# Altium schematic symbol library UWRT_Schematic_Library_2020.SchLib: 766 symbols (part 5 of 8)
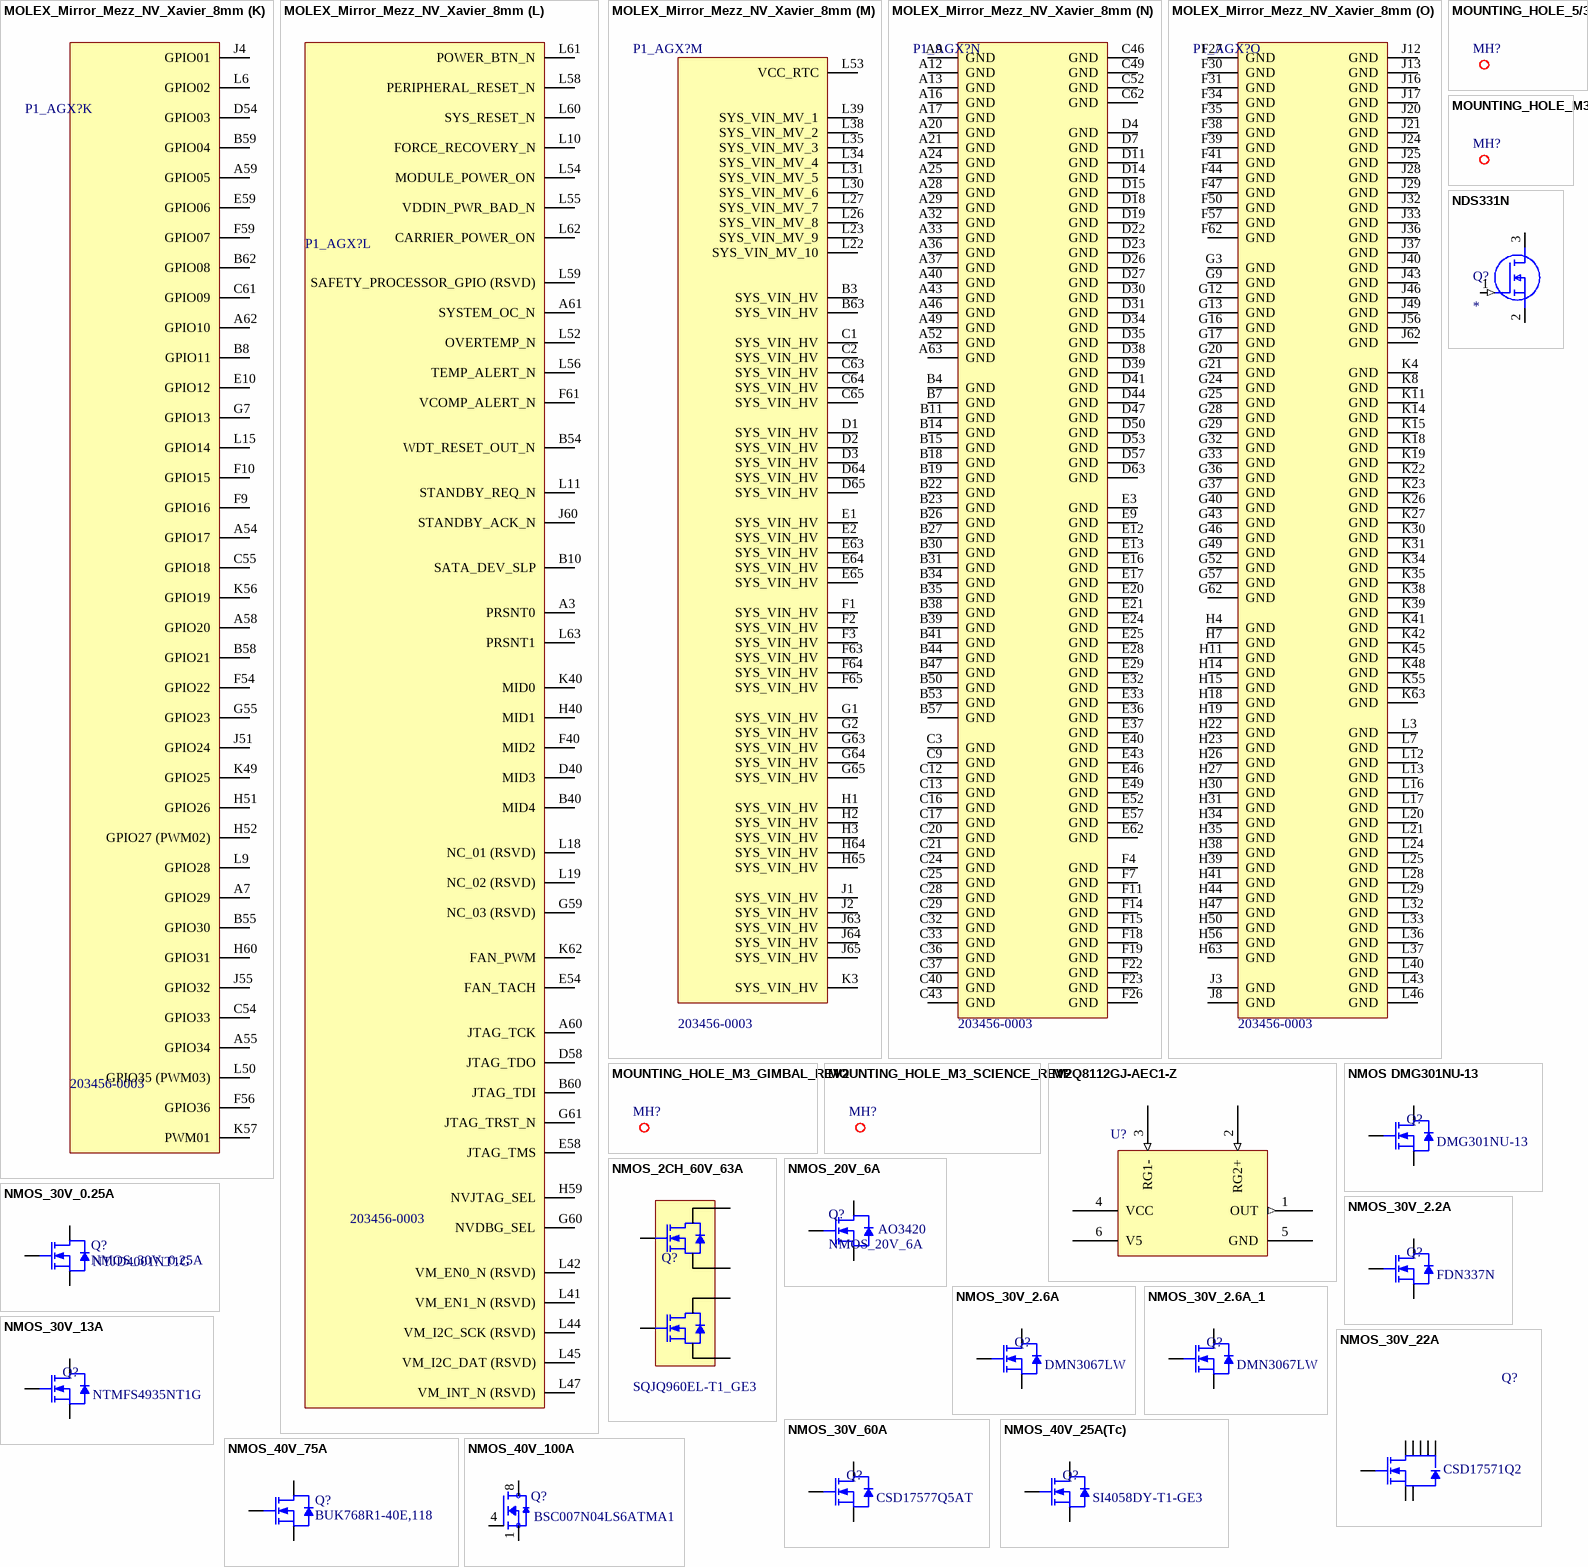
[diagram p29: symbols MOLEX_Mirror_Mezz_NV_Xavier_8mm to NMOS_40V_100A]

## MOLEX_Mirror_Mezz_NV_Xavier_8mm
designator P1_AGX?  Manufacturer Part Number 1: 203456-0003
CONN SELF-MATE 699POS SMD GOLD; Manufacturer 1: Molex; Supplier 1: Digi-Key; Supplier Part Number 1: WM25528CT-ND
footprint 203456-0003
part A pins: A14 UPHY_RX8_N "UPHY: Receive Lane 8", A15 UPHY_RX8_P "UPHY: Receive Lane 8", A18 UPHY_RX4_P "UPHY: Receive Lane 4", A19 UPHY_RX4_N "UPHY: Receive Lane 4", A22 UPHY_RX0_P "UPHY: Receive Lane 0", A23 UPHY_RX0_N "UPHY: Receive Lane 0", B12 UPHY_RX10_P "UPHY: Receive Lane 10", B13 UPHY_RX10_N "UPHY: Receive Lane 10", B16 UPHY_RX6_P "UPHY: Receive Lane 6", B17 UPHY_RX6_N "UPHY: Receive Lane 6", B20 UPHY_RX2_N "UPHY: Receive Lane 2", B21 UPHY_RX2_P "UPHY: Receive Lane 2", C14 UPHY_RX9_N "UPHY: Receive Lane 9", C15 UPHY_RX9_P "UPHY: Receive Lane 9", C18 UPHY_RX5_N "UPHY: Receive Lane 5", C19 UPHY_RX5_P "UPHY: Receive Lane 5", C22 UPHY_RX1_N "UPHY: Receive Lane 1", C23 UPHY_RX1_P "UPHY: Receive Lane 1", D12 UPHY_RX11_P "UPHY: Receive Lane 11", D13 UPHY_RX11_N "UPHY: Receive Lane 11", D16 UPHY_RX7_P "UPHY: Receive Lane 7", D17 UPHY_RX7_N "UPHY: Receive Lane 7", D20 UPHY_RX3_P "UPHY: Receive Lane 3", D21 UPHY_RX3_N "UPHY: Receive Lane 3", E26 UPHY_REFCLK1_N "UPHY: Reference Clock 1", E27 UPHY_REFCLK1_P "UPHY: Reference Clock 1", F28 UPHY_REFCLK2_P "UPHY: Reference Clock 2", F29 UPHY_REFCLK2_N "UPHY: Reference Clock 2", G14 UPHY_TX9_N "UPHY: Transmit Lane 9", G15 UPHY_TX9_P "UPHY: Transmit Lane 9", G18 UPHY_TX5_N "UPHY: Transmit Lane 5", G19 UPHY_TX5_P "UPHY: Transmit Lane 5", G22 UPHY_TX1_N "UPHY: Transmit Lane 1", G23 UPHY_TX1_P "UPHY: Transmit Lane 1", H12 UPHY_TX11_P "UPHY: Transmit Lane 11", H13 UPHY_TX11_N "UPHY: Transmit Lane 11", H16 UPHY_TX7_P "UPHY: Transmit Lane 7", H17 UPHY_TX7_N "UPHY: Transmit Lane 7", H20 UPHY_TX3_P "UPHY: Transmit Lane 3", H21 UPHY_TX3_N "UPHY: Transmit Lane 3", J14 UPHY_TX8_P "UPHY: Transmit Lane 8", J15 UPHY_TX8_N "UPHY: Transmit Lane 8", J18 UPHY_TX4_P "UPHY: Transmit Lane 4", J19 UPHY_TX4_N "UPHY: Transmit Lane 4", J22 UPHY_TX0_P "UPHY: Transmit Lane 0", J23 UPHY_TX0_N "UPHY: Transmit Lane 0", K12 UPHY_TX10_N "UPHY: Transmit Lane 10", K13 UPHY_TX10_P "UPHY: Transmit Lane 10", K16 UPHY_TX6_N "UPHY: Transmit Lane 6", K17 UPHY_TX6_P "UPHY: Transmit Lane 6", K20 UPHY_TX2_N "UPHY: Transmit Lane 2", K21 UPHY_TX2_P "UPHY: Transmit Lane 2"
part B pins: A26 NVHS0_SLVS_RX3_P "PCIe/SLVS0: Receive Lane 3", A27 NVHS0_SLVS_RX3_N "PCIe/SLVS0: Receive Lane 3", A30 NVHS0_SLVS_RX7_P "PCIe/SLVS0: Receive Lane 7", A31 NVHS0_SLVS_RX7_N "PCIe/SLVS0: Receive Lane 7", B24 NVHS0_SLVS_RX1_N "PCIe/SLVS0: Receive Lane 1", B25 NVHS0_SLVS_RX1_P "PCIe/SLVS0: Receive Lane 1", B28 NVHS0_SLVS_RX5_N "PCIe/SLVS0: Receive Lane 5", B29 NVHS0_SLVS_RX5_P "PCIe/SLVS0: Receive Lane 5", C26 NVHS0_SLVS_RX2_N "PCIe/SLVS0: Receive Lane 2", C27 NVHS0_SLVS_RX2_P "PCIe/SLVS0: Receive Lane 2", C30 NVHS0_SLVS_RX6_N "PCIe/SLVS0: Receive Lane 6", C31 NVHS0_SLVS_RX6_P "PCIe/SLVS0: Receive Lane 6", D24 NVHS0_SLVS_RX0_P "PCIe/SLVS0: Receive Lane 0", D25 NVHS0_SLVS_RX0_N "PCIe/SLVS0: Receive Lane 0", D28 NVHS0_SLVS_RX4_P "PCIe/SLVS0: Receive Lane 4", D29 NVHS0_SLVS_RX4_N "PCIe/SLVS0: Receive Lane 4", E30 NVHS0_SLVS_REFCLK0_P "PCIe/SLVS0: Reference Clock 0", E31 NVHS0_SLVS_REFCLK0_N "PCIe/SLVS0: Reference Clock 0", F32 NVHS0_SLVS_REFCLK1_P (RSVD) "PCIe/SLVS0: Reference Clock 1", F33 NVHS0_SLVS_REFCLK1_N (RSVD) "PCIe/SLVS0: Reference Clock 1", G26 NVHS0_TX2_N "PCIe/SLVS0: Transmit Lane 2", G27 NVHS0_TX2_P "PCIe/SLVS0: Transmit Lane 2", G30 NVHS0_TX6_N "PCIe/SLVS0: Transmit Lane 6", G31 NVHS0_TX6_P "PCIe/SLVS0: Transmit Lane 6", H24 NVHS0_TX0_P "PCIe/SLVS0: Transmit Lane 0", H25 NVHS0_TX0_N "PCIe/SLVS0: Transmit Lane 0", H28 NVHS0_TX4_P "PCIe/SLVS0: Transmit Lane 4", H29 NVHS0_TX4_N "PCIe/SLVS0: Transmit Lane 4", J26 NVHS0_TX3_P "PCIe/SLVS0: Transmit Lane 3", J27 NVHS0_TX3_N "PCIe/SLVS0: Transmit Lane 3", J30 NVHS0_TX7_P "PCIe/SLVS0: Transmit Lane 7", J31 NVHS0_TX7_N "PCIe/SLVS0: Transmit Lane 7", K24 NVHS0_TX1_N "PCIe/SLVS0: Transmit Lane 1", K25 NVHS0_TX1_P "PCIe/SLVS0: Transmit Lane 1", K28 NVHS0_TX5_N "PCIe/SLVS0: Transmit Lane 5", K29 NVHS0_TX5_P "PCIe/SLVS0: Transmit Lane 5"
part C pins: A34 NVHS1_SLVS_RX3_P (RSVD) "SLVS1: Receive Lane 3", A35 NVHS1_SLVS_RX3_N (RSVD) "SLVS1: Receive Lane 3", A38 NVHS1_SLVS_RX7_P (RSVD) "SLVS1: Receive Lane 7", A39 NVHS1_SLVS_RX7_N (RSVD) "SLVS1: Receive Lane 7", B32 NVHS1_SLVS_RX1_N (RSVD) "SLVS1: Receive Lane 1", B33 NVHS1_SLVS_RX1_P (RSVD) "SLVS1: Receive Lane 1", B36 NVHS1_SLVS_RX5_N (RSVD) "SLVS1: Receive Lane 5", B37 NVHS1_SLVS_RX5_P (RSVD) "SLVS1: Receive Lane 5", C34 NVHS1_SLVS_RX0_P (RSVD) "SLVS1: Receive Lane 0", C35 NVHS1_SLVS_RX0_N (RSVD) "SLVS1: Receive Lane 0", C38 NVHS1_SLVS_RX6_N (RSVD) "SLVS1: Receive Lane 6", C39 NVHS1_SLVS_RX6_P (RSVD) "SLVS1: Receive Lane 6", D32 NVHS1_SLVS_RX2_N (RSVD) "SLVS1: Receive Lane 2", D33 NVHS1_SLVS_RX2_P (RSVD) "SLVS1: Receive Lane 2", D36 NVHS1_SLVS_RX4_P (RSVD) "SLVS1: Receive Lane 4", D37 NVHS1_SLVS_RX4_N (RSVD) "SLVS1: Receive Lane 4", E34 NVHS1_SLVS_REFCLK1_P (RSVD) "PCIe/SLVS1: Reference Clock 1", E35 NVHS1_SLVS_REFCLK1_N (RSVD) "PCIe/SLVS1: Reference Clock 1", F36 NVHS1_SLVS_REFCLK0_P (RSVD) "PCIe/SLVS1: Reference Clock 0", F37 NVHS1_SLVS_REFCLK0_N (RSVD) "PCIe/SLVS1: Reference Clock 0", G34 NVHS1_TX1_N (RSVD) "SLVS1: Transmit Lane 1", G35 NVHS1_TX1_P (RSVD) "SLVS1: Transmit Lane 1", G38 NVHS1_TX6_N (RSVD) "SLVS1: Transmit Lane 6", G39 NVHS1_TX6_P (RSVD) "SLVS1: Transmit Lane 6", H32 NVHS1_TX3_P (RSVD) "SLVS1: Transmit Lane 3", H33 NVHS1_TX3_N (RSVD) "SLVS1: Transmit Lane 3", H36 NVHS1_TX7_P (RSVD) "SLVS1: Transmit Lane 7", H37 NVHS1_TX7_N (RSVD) "SLVS1: Transmit Lane 7", J34 NVHS1_TX2_N (RSVD) "SLVS1: Transmit Lane 2", J35 NVHS1_TX2_P (RSVD) "SLVS1: Transmit Lane 2", J38 NVHS1_TX5_N (RSVD) "SLVS1: Transmit Lane 5", J39 NVHS1_TX5_P (RSVD) "SLVS1: Transmit Lane 5", K32 NVHS1_TX0_P (RSVD) "SLVS1: Transmit Lane 0", K33 NVHS1_TX0_N (RSVD) "SLVS1: Transmit Lane 0", K36 NVHS1_TX4_P (RSVD) "SLVS1: Transmit Lane 4", K37 NVHS1_TX4_N (RSVD) "SLVS1: Transmit Lane 4"
part D pins: A8 PEX_WAKE_N "PCIe: PCIe Wake", B9 PEX_L1_RST_N "PCIe: PCIe 1 Reset", C8 PEX_L5_CLKREQ_N "PCIe: PCIe 5 Clock Request", D9 PEX_L1_CLKREQ_N "PCIe: PCIe 1 Clock Request", D10 PEX_L0_RST_N "PCIe: PCIe 0 Reset", E11 PEX_L0_CLKREQ_N "PCIe: PCIe 0 Clock Request", E14 PEX_CLK0_N "PCIe: PCIe 0 Reference Clock", E15 PEX_CLK0_P "PCIe: PCIe 0 Reference Clock", E18 PEX_CLK2_N (RSVD) "PCIe: PCIe 2 Reference Clock", E19 PEX_CLK2_P (RSVD) "PCIe: PCIe 2 Reference Clock", E22 PEX_CLK4_N "PCIe: PCIe 4 Reference Clock", E23 PEX_CLK4_P "PCIe: PCIe 4 Reference Clock", F16 PEX_CLK1_P "PCIe: PCIe 1 Reference Clock", F17 PEX_CLK1_N "PCIe: PCIe 1 Reference Clock", F20 PEX_CLK3_P "PCIe: PCIe 3 Reference Clock", F21 PEX_CLK3_N "PCIe: PCIe 3 Reference Clock", F24 PEX_CLK5_P "PCIe: PCIe 5 Reference Clock", F25 PEX_CLK5_N "PCIe: PCIe 5 Reference Clock", G8 PEX_L4_CLKREQ_N "PCIe: PCIe 4 Clock Request", H10 PEX_L5_RST_N "PCIe: PCIe 5 Reset", J9 PEX_L4_RST_N "PCIe: PCIe 4 Reset", J10 PEX_L3_CLKREQ_N "PCIe: PCIe 3 Clock Request", J11 PEX_L2_CLKREQ_N (RSVD) "PCIe: PCIe 2 Clock Request", K9 PEX_L3_RST_N "PCIe: PCIe 3 Reset", K10 PEX_L2_RST_N (RSVD) "PCIe: PCIe 2 Reset"
part E pins: A47 HDMI_DP1_TX0_P "Display: DisplayPort 1 Lane 0 or HDMI 1 Lane 2", A48 HDMI_DP1_TX0_N "Display: DisplayPort 1 Lane 0 or HDMI 1 Lane 2", A50 HDMI_DP2_TX2_N "Display: DisplayPort 2 Lane 2 or HDMI 2 Lane 0", A51 HDMI_DP2_TX2_P "Display: DisplayPort 2 Lane 2 or HDMI 2 Lane 0", B48 HDMI_DP1_TX1_N "Display: DisplayPort 1 Lane 1 or HDMI 1 Lane 1", B49 HDMI_DP1_TX1_P "Display: DisplayPort 1 Lane 1 or HDMI 1 Lane 1", B51 HDMI_DP2_TX1_P "Display: DisplayPort 2 Lane 1 or HDMI 2 Lane 1", B52 HDMI_DP2_TX1_N "Display: DisplayPort 2 Lane 1 or HDMI 2 Lane 1", C50 HDMI_DP2_TX3_N "Display: DisplayPort 2 Lane 3 or HDMI 2 Clock Lane", C51 HDMI_DP2_TX3_P "Display: DisplayPort 2 Lane 3 or HDMI 2 Clock Lane", D48 HDMI_DP1_TX2_N "Display: DisplayPort 1 Lane 2 or HDMI 1 Lane 0", D49 HDMI_DP1_TX2_P "Display: DisplayPort 1 Lane 2 or HDMI 1 Lane 0", D51 HDMI_DP2_TX0_P "Display: DisplayPort 2 Lane 0 or HDMI 2 Lane 2", D52 HDMI_DP2_TX0_N "Display: DisplayPort 2 Lane 0 or HDMI 2 Lane 2", E50 HDMI_DP1_TX3_P "Display: DisplayPort 1 Lane 3 or HDMI 1 Clock Lane", E51 HDMI_DP1_TX3_N "Display: DisplayPort 1 Lane 3 or HDMI 1 Clock Lane", F51 DP0_AUX_CH_N "Display: DisplayPort 0 Lane AUX or HDMI 0 DDC SDA", F52 DP0_AUX_CH_P "Display: DisplayPort 0 Lane AUX or HDMI 0 DDC SCL", G50 HDMI_DP0_TX1_N "Display: DisplayPort 0 Lane 1 or HDMI 0 Lane 1", G51 HDMI_DP0_TX1_P "Display: DisplayPort 0 Lane 1 or HDMI 0 Lane 1", G53 DP2_AUX_CH_P "Display: DisplayPort 2 Lane AUX or HDMI 2 DDC SCL", G54 DP2_AUX_CH_N "Display: DisplayPort 2 Lane AUX or HDMI 2 DDC SDA", H48 HDMI_DP0_TX0_N "Display: DisplayPort 0 Lane 0 or HDMI 0 Lane 2", H49 HDMI_DP0_TX0_P "Display: DisplayPort 0 Lane 0 or HDMI 0 Lane 2", J47 HDMI_DP0_TX2_P "Display: DisplayPort 0 Lane 2 or HDMI 0 Lane 0", J48 HDMI_DP0_TX2_N "Display: DisplayPort 0 Lane 2 or HDMI 0 Lane 0", J50 HDMI_CEC "Display: HDMI CEC", J52 DP1_AUX_CH_P "Display: DisplayPort 1 Lane AUX or HDMI 1 DDC SCL", J53 DP1_AUX_CH_N "Display: DisplayPort 1 Lane AUX or HDMI 1 DDC SDA", K46 HDMI_DP0_TX3_P "Display: DisplayPort 0 Lane 3 or HDMI 0 Clock Lane", K47 HDMI_DP0_TX3_N "Display: DisplayPort 0 Lane 3 or HDMI 0 Clock Lane", K50 DP2_HPD "Display: DisplayPort 2 or HDMI 2 Hot Plug Detect", K51 DP1_HPD "Display: DisplayPort 1 or HDMI 1 Hot Plug Detect", K52 DP0_HPD "Display: DisplayPort 0 or HDMI 0 Hot Plug Detect"
part F pins: A10 USB2_P "USB: Port 2 Data", A11 USB2_N "USB: Port 2 Data", B5 RGMII_TXC "RGMII: Transmit Clock", C4 RGMII_RD0 "RGMII: Receive Data Bit 0", C5 RGMII_RXC "RGMII: Receive Clock", C10 USB1_N "USB: Port 1 Data", C11 USB1_P "USB: Port 1 Data", D5 RGMII_RX_CTL "RGMII: Receive Control", E5 RGMII_RD3 "RGMII: Receive Data Bit 3", E6 RGMII_SMA_MDC "RGMII: Management Clock", E7 RGMII_SMA_MDIO "RGMII: Management Data", F12 USB0_P "USB: Port 0 Data", F13 USB0_N "USB: Port 0 Data", G5 RGMII_TD1 "RGMII: Transmit Data Bit 1", G6 RGMII_TD3 "RGMII: Transmit Data Bit 3", G10 USB3_N "USB: Port 3 Data", G11 USB3_P "USB: Port 3 Data", H5 ENET_RST_N "RGMII: Reset", H6 RGMII_RD2 "RGMII: Receieve Data Bit 2", J5 ENET_INT "RGMII: Interrupt", J6 RGMII_TD0 "RGMII: Transmit Data Bit 0", J7 RGMII_TD2 "RGMII: Transmit Data Bit 2", K6 RGMII_RD1 "RGMII: Receive Data Bit 1", K7 RGMII_TX_CTL "RGMII: Transmit Control"
part G pins: A41 CSI2_D0_P "CSI: CSI 2 Data 0", A42 CSI2_D0_N "CSI: CSI 2 Data 0", A44 CSI7_D0_P "CSI: CSI 7 Data 0", A45 CSI7_D0_N "CSI: CSI 7 Data 0", B42 CSI2_CLK_N "CSI: CSI 2 Clock", B43 CSI2_CLK_P "CSI: CSI 2 Clock", B45 CSI7_CLK_P "CSI: CSI 7 Clock", B46 CSI7_CLK_N "CSI: CSI 7 Clock", C41 CSI2_D1_N "CSI: CSI 2 Data 1", C42 CSI2_D1_P "CSI: CSI 2 Data 1", C44 CSI5_CLK_P "CSI: CSI 5 Clock", C45 CSI5_CLK_N "CSI: CSI 5 Clock", C47 CSI7_D1_P "CSI: CSI 7 Data 1", C48 CSI7_D1_N "CSI: CSI 7 Data 1", D42 CSI5_D0_P "CSI: CSI 5 Data 0", D43 CSI5_D0_N "CSI: CSI 5 Data 0", D45 CSI5_D1_N "CSI: CSI 5 Data 1", D46 CSI5_D1_P "CSI: CSI 5 Data 1", E38 CSI0_D1_N "CSI: CSI 0 Data 1", E39 CSI0_D1_P "CSI: CSI 0 Data 1", E41 CSI0_D0_N "CSI: CSI 0 Data 0", E42 CSI0_D0_P "CSI: CSI 0 Data 0", E44 CSI3_D0_N "CSI: CSI 3 Data 0", E45 CSI3_D0_P "CSI: CSI 3 Data 0", E47 CSI4_D1_P "CSI: CSI 4 Data 1", E48 CSI4_D1_N "CSI: CSI 4 Data 1", F42 CSI0_CLK_N "CSI: CSI 0 Clock", F43 CSI0_CLK_P "CSI: CSI 0 Clock", F45 CSI3_CLK_N "CSI: CSI 3 Clock", F46 CSI3_CLK_P "CSI: CSI 3 Clock", F48 CSI4_CLK_P "CSI: CSI 4 Clock", F49 CSI4_CLK_N "CSI: CSI 4 Clock", G41 CSI1_D0_P "CSI: CSI 1 Data 0", G42 CSI1_D0_N "CSI: CSI 1 Data 0", G44 CSI3_D1_P "CSI: CSI 3 Data 1", G45 CSI3_D1_N "CSI: CSI 3 Data 1", G47 CSI4_D0_N "CSI: CSI 4 Data 0", G48 CSI4_D0_P "CSI: CSI 4 Data 0", H42 CSI1_CLK_N "CSI: CSI 1 Clock", H43 CSI1_CLK_P "CSI: CSI 1 Clock", H45 CSI6_D1_N "CSI: CSI 6 Data 1", H46 CSI6_D1_P "CSI: CSI 6 Data 1", J41 CSI1_D1_P "CSI: CSI 1 Data 1", J42 CSI1_D1_N "CSI: CSI 1 Data 1", J44 CSI6_CLK_P "CSI: CSI 6 Clock", J45 CSI6_CLK_N "CSI: CSI 6 Clock", K43 CSI6_D0_N "CSI: CSI 6 Data 0", K44 CSI6_D0_P "CSI: CSI 6 Data 0"
part H pins: A53 I2C5_CLK (DO NOT USE) (out) "I2C: Clock 5", C7 I2S1_DOUT (out) "I2S: Audio Port 1 Data Out", C53 I2C5_DAT (DO NOT USE) (io) "I2C: Data 5", C59 I2S3_CLK (io) "I2S: Audio Port 3 Clock", C60 I2S3_FS (in) "I2S: Audio Port 3 Left/Right Clock", D8 I2S1_FS (in) "I2S: Audio Port 1 Left/Right Clock", D61 I2C4_CLK (out) "I2C: Clock 4", E4 I2S2_FS (in) "I2S: Audio Port 2 Left/Right Clock", E53 I2C3_DAT (io) "I2C: Data 3", E60 I2C4_DAT (io) "I2C: Data 4", F5 I2S2_DOUT (out) "I2S: Audio Port 2 Data Out", F6 I2S2_DIN (in) "I2S: Audio Port 2 Data In", F53 I2C3_CLK (out) "I2C: Clock 3", G4 I2S2_CLK (io) "I2S: Audio Port 2 Clock", H8 I2S1_DIN (in) "I2S: Audio Port 1 Data In", H9 MCLK01 (out) "I2S: Audio Codec Master Clock 1", H53 MCLK03 (out) "I2S: Audio Codec Master Clock 3", H55 MCLK04 (out) "I2S: Audio Codec Master Clock 4", J54 MCLK02 (out) "I2S: Audio Codec Master Clock 2", J59 I2S3_DIN (in) "I2S: Audio Port 3 Data In", J61 I2C2_CLK (out) "I2C: Clock 2", K5 I2C1_CLK (out) "I2C: Clock 1", K59 I2S3_DOUT (out) "I2S: Audio Port 3 Data Out", K61 I2C2_DAT (io) "I2C: Data 2", L8 I2C1_DAT (io) "I2C: Data 1", L14 I2S1_CLK (io) "I2S: Audio Port 1 Clock", L57 MCLK05 (out) "I2S: Audio Codec Master Clock 5"
part I pins: A4 SDCARD_D2 "SD Card: SDIO Data 2", A5 SDCARD_CMD "SD Card: SDIO Command", A6 UFS0_REF_CLK "UFS: Reference Clock", A56 SPI1_MISO "SPI: SPI 1 Master In / Slave Out", B6 SDCARD_CLK "SD Card: Transmit Clock", B56 SPI1_CS1_N "SPI: SPI 1 Chip Select 1", C6 UFS0_RST_N "UFS: Reset", C57 SPI3_CS0_N "SPI: SPI 3 Chip Select 0", D6 SDCARD_D3 "SD Card: SDIO Data 3", D55 SPI1_MOSI "SPI: SPI 1 Master Out / Slave In", D56 SPI3_MISO "SPI: SPI 3 Master In / Slave Out", D60 SPI2_CS0_N "SPI: SPI 2 Chip Select 0", D62 SPI2_MISO "SPI: SPI 2 Master In / Slave Out", E8 SDCARD_D0 "SD Card: SDIO Data 0", E55 SPI1_CS0_N "SPI: SPI 1 Chip Select 0", E56 SPI3_CS1_N "SPI: SPI 3 Chip Select 1", E61 SPI2_CLK "SPI: SPI 2 Clock", F8 SDCARD_D1 "SD Card: SDIO Data 1", F55 SPI3_CLK "SPI: SPI 3 Clock", F60 SPI2_MOSI "SPI: SPI 2 Master Out / Slave In", G56 SPI3_MOSI "SPI: SPI 3 Master Out / Slave In", J57 SPI1_CLK "SPI: SPI 1 Clock"
part J pins: A57 UART2_CTS "UART: UART 2 Clear to Send", B61 CAN1_DIN "CAN: CAN 1 Receive", C56 UART2_RX "UART: UART 2 Receive", C58 UART2_TX "UART: UART 2 Transmit", D59 CAN0_DOUT "CAN: CAN 0 Transmit", F58 CAN0_DIN "CAN: CAN 0 Receive", G58 UART2_RTS "UART: UART 2 Request to Send", H54 UART1_CTS "UART: UART 1 Clear to Send", H57 UART5_CTS "UART: UART 5 Clear to Send", H58 UART5_RX "UART: UART 5 Receive", H61 CAN1_DOUT "CAN: CAN 1 Transmit", H62 UART3_TX_DEBUG "UART: Debug UART Transmit", J58 UART5_TX "UART: UART 5 Transmit", K53 UART1_TX "UART: UART 1 Transmit", K54 UART1_RX "UART: UART 1 Receive", K58 UART5_RTS "UART: UART 5 Request to Send", K60 UART3_RX_DEBUG "UART: Debug UART Receive", L4 UART4_RTS (RSVD) "UART: UART 4 Request to Send", L5 UART4_TX (RSVD) "UART: UART 4 Transmit", L48 UART4_RX (RSVD) "UART: UART 4 Receive", L49 UART4_CTS (RSVD) "UART: UART 4 Clear to Send", L51 UART1_RTS "UART: UART 1 Request to Send"
part K pins: A7 GPIO29 "GPIO: GPIO29", A54 GPIO17 "GPIO: GPIO17", A55 GPIO34 "GPIO: GPIO34", A58 GPIO20 "GPIO: GPIO20", A59 GPIO05 "GPIO: GPIO05", A62 GPIO10 "GPIO: GPIO10", B8 GPIO11 "GPIO: GPIO11", B55 GPIO30 "GPIO: GPIO30", B58 GPIO21 "GPIO: GPIO21", B59 GPIO04 "GPIO: GPIO04", B62 GPIO08 "GPIO: GPIO08", C54 GPIO33 "GPIO: GPIO33", C55 GPIO18 "GPIO: GPIO18", C61 GPIO09 "GPIO: GPIO09", D54 GPIO03 "GPIO: GPIO03", E10 GPIO12 "GPIO: GPIO12", E59 GPIO06 "GPIO: GPIO06", F9 GPIO16 "GPIO: GPIO16", F10 GPIO15 "GPIO: GPIO15", F54 GPIO22 "GPIO: GPIO22", F56 GPIO36 "GPIO: GPIO36", F59 GPIO07 "GPIO: GPIO07", G7 GPIO13 "GPIO: GPIO13", G55 GPIO23 "GPIO: GPIO23", H51 GPIO26 "GPIO: GPIO26", H52 GPIO27 (PWM02) "GPIO: GPIO27", H60 GPIO31 "GPIO: GPIO31", J4 GPIO01 "GPIO: GPIO01", J51 GPIO24 "GPIO: GPIO24", J55 GPIO32 "GPIO: GPIO32", K49 GPIO25 "GPIO: GPIO25", K56 GPIO19 "GPIO: GPIO19", K57 PWM01 "GPIO: PWM01", L6 GPIO02 "GPIO: GPIO02", L9 GPIO28 "GPIO: GPIO28", L15 GPIO14 "GPIO: GPIO14", L50 GPIO35 (PWM03) "GPIO: GPIO35"
part L pins: A3 PRSNT0 "SYS: Module Present #0. Connected to PRSNT1 on the NVIDIA Xavier Module", A60 JTAG_TCK "JTAG: Test Clock", A61 SYSTEM_OC_N "SYS: Battery Over-Current & Thermal Warning", B10 SATA_DEV_SLP "SATA: Device Sleep", B40 MID4 "SYS: Module ID #4", B54 WDT_RESET_OUT_N "SYS: Watchdog Timeout", B60 JTAG_TDI "JTAG: Test Data In", D40 MID3 "SYS: Module ID #3", D58 JTAG_TDO "JTAG: Test Data Out", E54 FAN_TACH "FAN: Fan Tachometer Signal", E58 JTAG_TMS "JTAG: Test Mode Select", F40 MID2 "SYS: Module ID #2", F61 VCOMP_ALERT_N "SYS: TBD", G59 NC_03 (RSVD) "SYS: No Connect", G60 NVDBG_SEL "SYS: NVIDIA Debug Select", G61 JTAG_TRST_N "JTAG: Test Reset", H40 MID1 "SYS: Module ID #1", H59 NVJTAG_SEL "SYS: NVIDIA JTAG Select", J60 STANDBY_ACK_N "SYS: Standby Acknowledge", K40 MID0 "SYS: Module ID #0", K62 FAN_PWM "FAN: Fan Pulse Width Modulation Signal", L10 FORCE_RECOVERY_N "SYS: Force Recovery", L11 STANDBY_REQ_N "SYS: Standby Request", L18 NC_01 (RSVD) "SYS: No Connect", L19 NC_02 (RSVD) "SYS: No Connect", L41 VM_EN1_N (RSVD) "RSVD", L42 VM_EN0_N (RSVD) "RSVD", L44 VM_I2C_SCK (RSVD) "VM_I2C: Clock", L45 VM_I2C_DAT (RSVD) "VM_I2C: Data", L47 VM_INT_N (RSVD) "RSVD", L52 OVERTEMP_N "SYS: Force Power Off Request", L54 MODULE_POWER_ON "SYS: Module Power On", L55 VDDIN_PWR_BAD_N "SYS: VDD_IN Power Bad", L56 TEMP_ALERT_N "SYS: Alert from Temp Sensor on Module", L58 PERIPHERAL_RESET_N "SYS: Peripheral Reset", L59 SAFETY_PROCESSOR_GPIO (RSVD) "RSVD", L60 SYS_RESET_N "SYS: System Reset", L61 POWER_BTN_N "SYS: Power Button", L62 CARRIER_POWER_ON "SYS: Carrier Power On", L63 PRSNT1 "SYS: Module Present #1. Connected to PRSNT0 on the NVIDIA Xavier Module"
part M pins: B3 SYS_VIN_HV "Power: System Voltage Input - High (+9V to +20V)", B63 SYS_VIN_HV "Power: System Voltage Input - High (+9V to +20V)", C1 SYS_VIN_HV "Power: System Voltage Input - High (+9V to +20V)", C2 SYS_VIN_HV "Power: System Voltage Input - High (+9V to +20V)", C63 SYS_VIN_HV "Power: System Voltage Input - High (+9V to +20V)", C64 SYS_VIN_HV "Power: System Voltage Input - High (+9V to +20V)", C65 SYS_VIN_HV "Power: System Voltage Input - High (+9V to +20V)", D1 SYS_VIN_HV "Power: System Voltage Input - High (+9V to +20V)", D2 SYS_VIN_HV "Power: System Voltage Input - High (+9V to +20V)", D3 SYS_VIN_HV "Power: System Voltage Input - High (+9V to +20V)", D64 SYS_VIN_HV "Power: System Voltage Input - High (+9V to +20V)", D65 SYS_VIN_HV "Power: System Voltage Input - High (+9V to +20V)", E1 SYS_VIN_HV "Power: System Voltage Input - High (+9V to +20V)", E2 SYS_VIN_HV "Power: System Voltage Input - High (+9V to +20V)", E63 SYS_VIN_HV "Power: System Voltage Input - High (+9V to +20V)", E64 SYS_VIN_HV "Power: System Voltage Input - High (+9V to +20V)", E65 SYS_VIN_HV "Power: System Voltage Input - High (+9V to +20V)", F1 SYS_VIN_HV "Power: System Voltage Input - High (+9V to +20V)", F2 SYS_VIN_HV "Power: System Voltage Input - High (+9V to +20V)", F3 SYS_VIN_HV "Power: System Voltage Input - High (+9V to +20V)", F63 SYS_VIN_HV "Power: System Voltage Input - High (+9V to +20V)", F64 SYS_VIN_HV "Power: System Voltage Input - High (+9V to +20V)", F65 SYS_VIN_HV "Power: System Voltage Input - High (+9V to +20V)", G1 SYS_VIN_HV "Power: System Voltage Input - High (+9V to +20V)", G2 SYS_VIN_HV "Power: System Voltage Input - High (+9V to +20V)", G63 SYS_VIN_HV "Power: System Voltage Input - High (+9V to +20V)", G64 SYS_VIN_HV "Power: System Voltage Input - High (+9V to +20V)", G65 SYS_VIN_HV "Power: System Voltage Input - High (+9V to +20V)", H1 SYS_VIN_HV "Power: System Voltage Input - High (+9V to +20V)", H2 SYS_VIN_HV "Power: System Voltage Input - High (+9V to +20V)", H3 SYS_VIN_HV "Power: System Voltage Input - High (+9V to +20V)", H64 SYS_VIN_HV "Power: System Voltage Input - High (+9V to +20V)", H65 SYS_VIN_HV "Power: System Voltage Input - High (+9V to +20V)", J1 SYS_VIN_HV "Power: System Voltage Input - High (+9V to +20V)", J2 SYS_VIN_HV "Power: System Voltage Input - High (+9V to +20V)", J63 SYS_VIN_HV "Power: System Voltage Input - High (+9V to +20V)", J64 SYS_VIN_HV "Power: System Voltage Input - High (+9V to +20V)", J65 SYS_VIN_HV "Power: System Voltage Input - High (+9V to +20V)", K3 SYS_VIN_HV "Power: System Voltage Input - High (+9V to +20V)", L22 SYS_VIN_MV_10 "Power: System Voltage Input - Medium (+5V)", L23 SYS_VIN_MV_9 "Power: System Voltage Input - Medium (+5V)", L26 SYS_VIN_MV_8 "Power: System Voltage Input - Medium (+5V)", L27 SYS_VIN_MV_7 "Power: System Voltage Input - Medium (+5V)", L30 SYS_VIN_MV_6 "Power: System Voltage Input - Medium (+5V)", L31 SYS_VIN_MV_5 "Power: System Voltage Input - Medium (+5V)", L34 SYS_VIN_MV_4 "Power: System Voltage Input - Medium (+5V)", L35 SYS_VIN_MV_3 "Power: System Voltage Input - Medium (+5V)", L38 SYS_VIN_MV_2 "Power: System Voltage Input - Medium (+5V)", L39 SYS_VIN_MV_1 "Power: System Voltage Input - Medium (+5V)", L53 VCC_RTC "Power: Real-Time-Clock (+1.65V to +5.5V)"
part N pins: A9 GND "Power: GND", A12 GND "Power: GND", A13 GND "Power: GND", A16 GND "Power: GND", A17 GND "Power: GND", A20 GND "Power: GND", A21 GND "Power: GND", A24 GND "Power: GND", A25 GND "Power: GND", A28 GND "Power: GND", A29 GND "Power: GND", A32 GND "Power: GND", A33 GND "Power: GND", A36 GND "Power: GND", A37 GND "Power: GND", A40 GND "Power: GND", A43 GND "Power: GND", A46 GND "Power: GND", A49 GND "Power: GND", A52 GND "Power: GND", A63 GND "Power: GND", B4 GND "Power: GND", B7 GND "Power: GND", B11 GND "Power: GND", B14 GND "Power: GND", B15 GND "Power: GND", B18 GND "Power: GND", B19 GND "Power: GND", B22 GND "Power: GND", B23 GND "Power: GND", B26 GND "Power: GND", B27 GND "Power: GND", B30 GND "Power: GND", B31 GND "Power: GND", B34 GND "Power: GND", B35 GND "Power: GND", B38 GND "Power: GND", B39 GND "Power: GND", B41 GND "Power: GND", B44 GND "Power: GND", B47 GND "Power: GND", B50 GND "Power: GND", B53 GND "Power: GND", B57 GND "Power: GND", C3 GND "Power: GND", C9 GND "Power: GND", C12 GND "Power: GND", C13 GND "Power: GND", C16 GND "Power: GND", C17 GND "Power: GND", C20 GND "Power: GND", C21 GND "Power: GND", C24 GND "Power: GND", C25 GND "Power: GND", C28 GND "Power: GND", C29 GND "Power: GND", C32 GND "Power: GND", C33 GND "Power: GND", C36 GND "Power: GND", C37 GND "Power: GND", C40 GND "Power: GND", C43 GND "Power: GND", C46 GND "Power: GND", C49 GND "Power: GND", C52 GND "Power: GND", C62 GND "Power: GND", D4 GND "Power: GND", D7 GND "Power: GND", D11 GND "Power: GND", D14 GND "Power: GND", D15 GND "Power: GND", D18 GND "Power: GND", D19 GND "Power: GND", D22 GND "Power: GND", D23 GND "Power: GND", D26 GND "Power: GND", D27 GND "Power: GND", D30 GND "Power: GND", D31 GND "Power: GND", D34 GND "Power: GND", D35 GND "Power: GND", D38 GND "Power: GND", D39 GND "Power: GND", D41 GND "Power: GND", D44 GND "Power: GND", D47 GND "Power: GND", D50 GND "Power: GND", D53 GND "Power: GND", D57 GND "Power: GND", D63 GND "Power: GND", E3 GND "Power: GND", E9 GND "Power: GND", E12 GND "Power: GND", E13 GND "Power: GND", E16 GND "Power: GND", E17 GND "Power: GND", E20 GND "Power: GND", E21 GND "Power: GND", E24 GND "Power: GND", E25 GND "Power: GND", E28 GND "Power: GND", E29 GND "Power: GND", E32 GND "Power: GND", E33 GND "Power: GND", E36 GND "Power: GND", E37 GND "Power: GND", E40 GND "Power: GND", E43 GND "Power: GND", E46 GND "Power: GND", E49 GND "Power: GND", E52 GND "Power: GND", E57 GND "Power: GND", E62 GND "Power: GND", F4 GND "Power: GND", F7 GND "Power: GND", F11 GND "Power: GND", F14 GND "Power: GND", F15 GND "Power: GND", F18 GND "Power: GND", F19 GND "Power: GND", F22 GND "Power: GND", F23 GND "Power: GND", F26 GND "Power: GND"
part O pins: F27 GND "Power: GND", F30 GND "Power: GND", F31 GND "Power: GND", F34 GND "Power: GND", F35 GND "Power: GND", F38 GND "Power: GND", F39 GND "Power: GND", F41 GND "Power: GND", F44 GND "Power: GND", F47 GND "Power: GND", F50 GND "Power: GND", F57 GND "Power: GND", F62 GND "Power: GND", G3 GND "Power: GND", G9 GND "Power: GND", G12 GND "Power: GND", G13 GND "Power: GND", G16 GND "Power: GND", G17 GND "Power: GND", G20 GND "Power: GND", G21 GND "Power: GND", G24 GND "Power: GND", G25 GND "Power: GND", G28 GND "Power: GND", G29 GND "Power: GND", G32 GND "Power: GND", G33 GND "Power: GND", G36 GND "Power: GND", G37 GND "Power: GND", G40 GND "Power: GND", G43 GND "Power: GND", G46 GND "Power: GND", G49 GND "Power: GND", G52 GND "Power: GND", G57 GND "Power: GND", G62 GND "Power: GND", H4 GND "Power: GND", H7 GND "Power: GND", H11 GND "Power: GND", H14 GND "Power: GND", H15 GND "Power: GND", H18 GND "Power: GND", H19 GND "Power: GND", H22 GND "Power: GND", H23 GND "Power: GND", H26 GND "Power: GND", H27 GND "Power: GND", H30 GND "Power: GND", H31 GND "Power: GND", H34 GND "Power: GND", H35 GND "Power: GND", H38 GND "Power: GND", H39 GND "Power: GND", H41 GND "Power: GND", H44 GND "Power: GND", H47 GND "Power: GND", H50 GND "Power: GND", H56 GND "Power: GND", H63 GND "Power: GND", J3 GND "Power: GND", J8 GND "Power: GND", J12 GND "Power: GND", J13 GND "Power: GND", J16 GND "Power: GND", J17 GND "Power: GND", J20 GND "Power: GND", J21 GND "Power: GND", J24 GND "Power: GND", J25 GND "Power: GND", J28 GND "Power: GND", J29 GND "Power: GND", J32 GND "Power: GND", J33 GND "Power: GND", J36 GND "Power: GND", J37 GND "Power: GND", J40 GND "Power: GND", J43 GND "Power: GND", J46 GND "Power: GND", J49 GND "Power: GND", J56 GND "Power: GND", J62 GND "Power: GND", K4 GND "Power: GND", K8 GND "Power: GND", K11 GND "Power: GND", K14 GND "Power: GND", K15 GND "Power: GND", K18 GND "Power: GND", K19 GND "Power: GND", K22 GND "Power: GND", K23 GND "Power: GND", K26 GND "Power: GND", K27 GND "Power: GND", K30 GND "Power: GND", K31 GND "Power: GND", K34 GND "Power: GND", K35 GND "Power: GND", K38 GND "Power: GND", K39 GND "Power: GND", K41 GND "Power: GND", K42 GND "Power: GND", K45 GND "Power: GND", K48 GND "Power: GND", K55 GND "Power: GND", K63 GND "Power: GND", L3 GND "Power: GND", L7 GND "Power: GND", L12 GND "Power: GND", L13 GND "Power: GND", L16 GND "Power: GND", L17 GND "Power: GND", L20 GND "Power: GND", L21 GND "Power: GND", L24 GND "Power: GND", L25 GND "Power: GND", L28 GND "Power: GND", L29 GND "Power: GND", L32 GND "Power: GND", L33 GND "Power: GND", L36 GND "Power: GND", L37 GND "Power: GND", L40 GND "Power: GND", L43 GND "Power: GND", L46 GND "Power: GND"

## MOUNTING_HOLE_5/32
designator MH?  (no BOM)
MOUNTING_HOLE_5/32
footprint MOUNTING_HOLE_5/38 (Meant to use with Mcmaster-carr PN: 91443A250)

## MOUNTING_HOLE_M3
designator MH?  (no BOM)
MOUNTING_HOLE_M3
footprint MOUNTING_HOLE_3mm (3mm Hole)

## MOUNTING_HOLE_M3_GIMBAL_REV2
designator MH?  (no BOM)
MOUNTING_HOLE_M3 Gimbal Rev2
footprint MOUNTING_HOLE_3mm_GIMBAL_REV2 (3mm Hole)

## MOUNTING_HOLE_M3_SCIENCE_REV2
designator MH?  (no BOM)
MOUNTING_HOLE_M3 Science Rev2
footprint MOUNTING_HOLE_3mm_SCIENCE_REV2 (3mm Hole)

## MPQ8112GJ-AEC1-Z
designator U?
60V, HIGH-SIDE CURRENT-SENSE AMP; Manufacturer: Monolithic Power Systems Inc.; Manufacturer Part Number: MPQ8112GJ-AEC1-Z; Vmin: 2.7V; Gain: 50; Supplier: Digi-Key; Supplier Part Number: 1589-MPQ8112GJ-AEC1-ZCT-ND; Vmax: 60V; Supplier 1: Digi-Key; Supplier Part Number 1: 1589-MPQ8112GJ-AEC1-ZCT-ND
footprint MPQ8112GJ-AEC1-Z (SOT23, 6-Leads, Body 2.90x2.40mm, Pitch 0.95mm, IPC Medium Density)
pins: 1 OUT (out), 2 RG2+ (in), 3 RG1- (in), 4 VCC (power), 5 GND (power), 6 V5 (power)

## NDS331N
designator Q?
MOSFET (N-Channel); Manufacturer_Name: onsemi; Manufacturer Part Number 1: NDS331N; Datasheet Link: https://www.onsemi.com/pub/Collateral/NDS331N-D.PDF; Height: 1.12mm; Mouser Part Number: 512-NDS331N; Mouser Price/Stock: https://www.mouser.co.uk/ProductDetail/ON-Semiconductor-Fairchild/NDS331N?qs=FOlmdCx%252BAA2del7Yv4IvDw%3D%3D
footprint SOT95P251X112-3N
pins: 1 G (in), 2 S (power), 3 D (power)

## NMOS DMG301NU-13
designator Q?  Manufacturer Part Number 1: DMG301NU-13
MOSFET N-CH 25V 260MA SOT23; Manufacturer 1: Diodes Incorporated; Package/Footprint: SOT-23; Id: 260mA (Ta); Vgs (Max): ±8V; Supplier 1: Digi-Key; Mounting Type: SMD; Supplier Part Number 1: DMG301NU-13DICT-ND; Vdss: 25V; Verified: No
footprint SOT23-3 (SOT23, 3-Leads, Body 2.90x2.30mm, Pitch 0.95mm, IPC Medium Density)
pins: 1 GATE, 2 SOURCE, 3 DRAIN

## NMOS_2CH_60V_63A
designator Q?  Manufacturer Part Number: SQJQ960EL-T1_GE3
MOSFET 2 N-CH 60V POWERPAK8X8; Manufacturer: Vishay; Supplier 1: Digi-Key; RoHS: No; Category: MOSFETs; Stock 1: 848; Pricing 1: 1=2.32000, 10=2.08400, 100=1.67520, 500=1.37638, 1000=1.17975 (USD); ComponentLink1URL: http://www.vishay.com/docs/76020/sqjq960el.pdf?src-supplier=Digi-Key; ComponentLink1Description: http://www.vishay.com/docs/76020/sqjq960el.pdf?src-supplier=Digi-Key; Supplier Part Number 1: SQJQ960EL-T1_GE3CT-ND
footprint PowerPAK 8 x 8 Dual
pins: 1 G1 "GATE", 2 S1 "SOURCE", 3 S2 "SOURCE", 4 G2 "GATE", 5 D1 "DRAIN", 6 D2 "DRAIN"

## NMOS_20V_6A
designator Q?  Manufacturer Part Number 1: AO3420
MOSFET N-CH 20V 6A SOT-23; Manufacturer 1: Alpha & Omega; Supplier 1: Digi-Key; Supplier Part Number 1: 785-1014-2-ND
footprint SOT23-3 (SOT23, 3-Leads, Body 2.90x2.30mm, Pitch 0.95mm, IPC Medium Density)
pins: 1 GATE, 2 SOURCE, 3 DRAIN

## NMOS_30V_0.25A
designator Q?  Manufacturer Part Number 1: NTJD4001NT1G
MOSFET 2N-CH 30V 0.25A SOT-363; Manufacturer 1: ON Semiconductor; Supplier 1: Digi-Key; Supplier Part Number 1: NTJD4001NT1GOSCT-ND; DS Breakdown Voltage-Min: 30V
footprint SOT363
pins: 1 GATE, 2 SOURCE, 3 DRAIN

## NMOS_30V_2.2A
designator Q?  Manufacturer Part Number 1: FDN337N
MOSFET N-CH 30V 2.2A SUPERSOT3; Manufacturer 1: ON Semiconductor / Fairchild; Vgs (Max): ±8V; Supplier 1: Digi-Key; Mounting Type: SMD; Package: SuperSOT-3; Supplier Part Number 1: FDN337NCT-ND; Id: 2.2A; Vdss: 30V; Verified: No
footprint NMOS_SSOT-3
pins: 1 GATE, 2 SOURCE, 3 DRAIN

## NMOS_30V_2.6A
designator Q?  Manufacturer Part Number 1: DMN3067LW
MOSFET N-CH 30V 2.6A SOT-323; Manufacturer 1: Diodes Incorporated; Vgs (Max): ±12V; Supplier 1: Digi-Key; Supplier Part Number 1: DMN3067LW-7DICT-ND; Package/Footprint: SOT-323; Vdss: 30V; Mounting Type: SMD; Id: 2.6A
footprint NMOS_SOT-323
pins: 1 GATE, 2 SOURCE, 3 DRAIN

## NMOS_30V_2.6A_1
designator Q?  Manufacturer Part Number 1: DMN3067LW
MOSFET N-CH 30V 2.6A SOT-323; Manufacturer 1: Diodes Incorporated; Vgs (Max): ±12V; Supplier 1: Digi-Key; Supplier Part Number 1: DMN3067LW-7DICT-ND; Package/Footprint: SOT-323; Vdss: 30V; Mounting Type: SMD; Id: 2.6A
footprint NMOS_SOT-323
pins: 1 GATE, 2 SOURCE, 3 DRAIN

## NMOS_30V_13A
designator Q?  Manufacturer Part Number 1: NTMFS4935NT1G
MOSFET N-CH 30V 13A SO8FL; Manufacturer 1: ON Semiconductor; Package/Footprint: 8-PowerTDFN; Vgs (Max): ±20V; Supplier 1: Digi-Key; Supplier Part Number 1: NTMFS4935NT1GOSCT-ND; Mounting Type: SMD; Verified: No; Id: 13A; Vdss: 30V
footprint SO8-FL
pins: 1 Source, 2 Gate, 3 Drain

## NMOS_30V_22A
designator Q?  Manufacturer Part Number 1: CSD17571Q2
MOSFET N-CH 30V 22A 6SON; Manufacturer 1: Texas Instruments; Supplier 1: Digi-Key; Supplier Part Number 1: 296-37193-1-ND
footprint TRANS_CSD19538Q2
pins: 1 D, 2 D, 3 G, 4 S, 5 D, 6 D, 7 S, 8 D

## NMOS_30V_60A
designator Q?  Manufacturer Part Number 1: CSD17577Q5AT
MOSFET N-CH 30V 60A 8VSON; Manufacturer 1: Texas Instruments; Supplier 1: Digi-Key; Supplier Part Number 1: 296-38337-1-ND
footprint MOSFET_CSD19531Q5A
pins: 1 Source, 2 Gate, 3 Drain

## NMOS_40V_25A(Tc)
designator Q?  Manufacturer Part Number 1: SI4058DY-T1-GE3
MOSFET N-CH 100V 10.3A 8SOIC; Manufacturer 1: Vishay Siliconix; Vgs (Max): ±20V; Package/Footprint: 8-SOIC; Supplier 1: Digi-Key; Supplier Part Number 1: SI4058DY-T1-GE3CT-ND; Vdss: 100V; Id: 10.3A
footprint 8-SOIC_NMOS
pins: 1 Gate, 2 Source, 3 Drain

## NMOS_40V_75A
designator Q?  Manufacturer Part Number 1: BUK768R1-40E,118
MOSFET N-CH 40V 75A D2PAK; Manufacturer 1: Nexperia USA Inc.; Package: D2PAK; Supplier 1: Digi-Key; Supplier Part Number 1: 1727-7257-1-ND; Mounting Type: SMD; Verified: No
footprint SOT404
pins: 1 G "gate", 3 S "source", 4 D "mounting base; connected to drain"

## NMOS_40V_100A
designator Q?  Manufacturer Part Number 1: BSC007N04LS6ATMA1
MOSFET N-CH 40V 100A PG-TDSON-8-6; Manufacturer 1: Infineon Technologies; Package/Footprint: 8-PowerTDFN; Vgs (Max): ±20V; Supplier 1: Digi-Key; Supplier Part Number 1: BSC007N04LS6ATMA1CT-ND; Mounting Type: SMD; Verified: No; Id: 100A; Vdss: 40V
footprint TRANS_BSC007N04LS6ATMA1
pins: 1 S, 4 G, 8 D

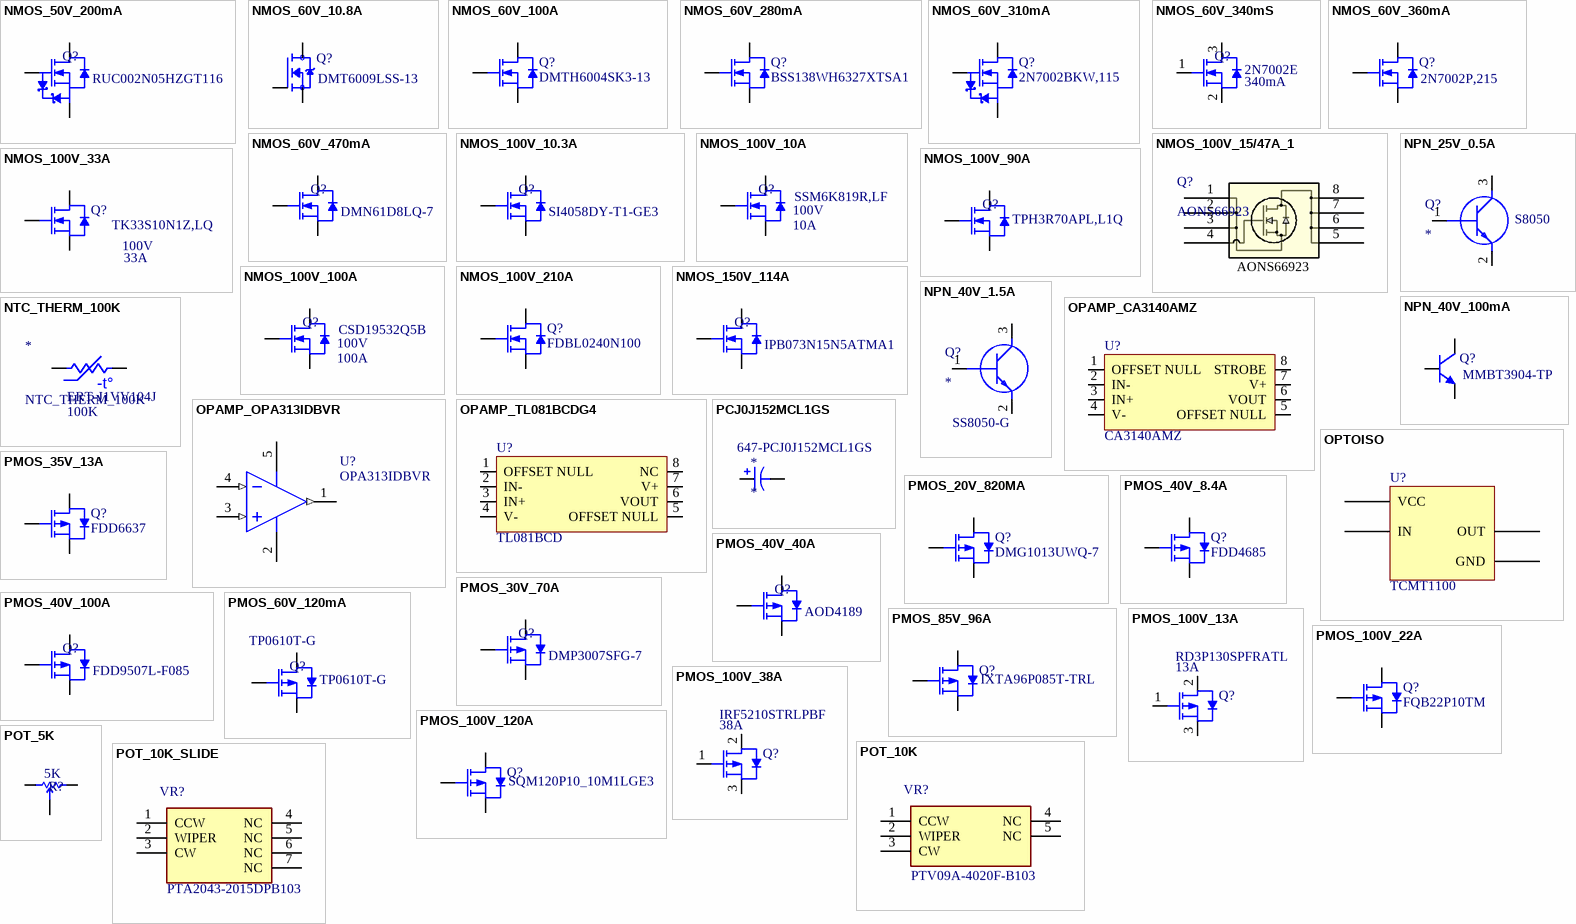
[diagram p16: symbols NMOS_50V_200mA to POT_10K_SLIDE]

## NMOS_50V_200mA
designator Q?  Manufacturer Part Number 1: RUC002N05HZGT116
MOSFET N-CH 50V 200mA 1.2V DRIVE SOT-23-3; Manufacturer 1: Rohm Semiconductor; Vgs (Max): ±8V; Supplier 1: Digi-Key; Supplier Part Number 1: RUC002N05HZGT116CT-ND; Vdss: 50V; Mounting Type: SMD; Package: SOT-23-3; Id: 200mA
footprint SOT23-3 (SOT23, 3-Leads, Body 2.90x2.30mm, Pitch 0.95mm, IPC Medium Density)
pins: 1 G "gate", 2 S "source", 3 D "mounting base; connected to drain"

## NMOS_60V_10.8A
designator Q?  Manufacturer Part Number 1: DMT6009LSS-13
MOSFET BVDSS: 41V 60V,SO-8,T&R,2; Manufacturer 1: Texas Instruments; Continuous Drain Current (Id) @ 25°C: 10.8A (Ta); Drive Voltage (Max Rds On, Min Rds On): 4.5V, 10V; Rds On (Max) @ Id, Vgs: 59mOhm @ 5A, 10V; Vgs(th) (Max) @ Id: 9.5mOhm @ 13.5A, 10V; Vgs (Max): ±20V; Power Dissipation (Max): 1.25W (Ta); Package/Footprint: 8-SOIC; Supplier 1: Digi-Key; Supplier Part Number 1: DMT6009LSS-13DICT-ND; Operating Temperature: -55°C - 150°C (TJ); Mounting Type: SMD; Drain to Source Voltage (Vdss): 60V; LCSC Part #: C508211
footprint TRANS_DMP2002UPS-13
pins: 1 D, 2 S, 3 G

## NMOS_60V_100A
designator Q?  Manufacturer Part Number 1: DMTH6004SK3-13
MOSFET N-CH 60V 100A DPAK; Manufacturer 1: Diodes Incorporated; FET Type: N-Channel; Vgs (Max): 20V; Power Dissipation (Max): 180W; Supplier 1: Digi-Key; Supplier Part Number 1: DMTH6004SK3-13DICT-ND; Vdss: 60V; Supplier Device Package: D-PAK (TO-252); Id: 100A
footprint D-PAK (TO-252AA)
pins: 1 Drain, 2 Gate, 3 Source

## NMOS_60V_280mA
designator Q?  Manufacturer Part Number 1: BSS138WH6327XTSA1
MOSFET N-CH 60V 280MA SOT323-3; Manufacturer 1: Infineon Technologies; FET Type: N-Channel; Vgs (Max): 20V; Power Dissipation (Max): 500mW; Vdss: 60V; Supplier Device Package: SOT-323; Id: 280mA; Supplier 1: Digi-Key; Supplier Part Number 1: BSS138WH6327XTSA1CT-ND
footprint SOT-323
pins: 1 Gate, 2 Source, 3 Drain

## NMOS_60V_310mA
designator Q?  Manufacturer Part Number 1: 2N7002BKW,115
MOSFET N-CH 60V 310mA SOT-323; Manufacturer 1: Nexperia; Supplier 1: Digi-Key; Supplier Part Number 1: 1727-4788-1-ND; Id: 310mA
footprint SOT323
pins: 1 G "gate", 2 S "source", 3 D "mounting base; connected to drain"

## NMOS_60V_340mS
designator Q?  Id: 340mA  Manufacturer Part Number 1: 2N7002E
N-Channel 60 V 340mA (Ta) 350mW (Ta) Surface Mount SOT-23; Manufacturer 1: ANBON SEMICONDUCTOR (INT'L) LIMITED; Vgs (Max): ±20V; Vdss: 60V; Supplier 1: Digi-Key; Supplier Part Number 1: 4530-2N7002ECT-ND; Mounting Type: SMD; Package/Footprint: SOT-23; Verified: No
footprint SOT23-3 (SOT23, 3-Leads, Body 2.90x2.30mm, Pitch 0.95mm, IPC Medium Density)
pins: 1 Gate, 2 Source, 3 Drain

## NMOS_60V_360mA
designator Q?  Manufacturer Part Number 1: 2N7002P,215
MOSFET N-CH 60V 0.36A SOT-23; Manufacturer 1: Nexperia USA Inc.; Part Number: 2N7002P,215; Package: TO-236-3, SC-59, SOT-23-3; Supplier 1: Digi-Key; Supplier Part Number 1: 1727-4692-1-ND
footprint SOT23-3 (SOT23, 3-Leads, Body 2.90x2.30mm, Pitch 0.95mm, IPC Medium Density)
pins: 1 G "gate", 3 S "source", 4 D "mounting base; connected to drain"

## NMOS_60V_470mA
designator Q?  Manufacturer Part Number 1: DMN61D8LQ-7
MOSFET N-CH 60V 470mA SOT23; Manufacturer 1: Diodes; Rds On Max: 1.8R; Input Capacitance: 12.9pF; Max Power Dissipation: 390mW; Supplier 1: Digi-Key; Stock 1: 72; Drain to Source Voltage (Vdss): 60V; Continuous Drain Current (ID): 470mA; Supplier Part Number 1: DMN61D8LQ-7DICT-ND
footprint SOT23-3 (SOT23, 3-Leads, Body 2.90x2.30mm, Pitch 0.95mm, IPC Medium Density)
pins: 1 GATE, 2 SOURCE, 3 DRAIN

## NMOS_100V_10.3A
designator Q?  Manufacturer Part Number 1: SI4058DY-T1-GE3
MOSFET N-CH 100V 10.3A 8SOIC; Manufacturer 1: Vishay Siliconix; Vgs (Max): ±20V; Package/Footprint: 8-SOIC; Supplier 1: Digi-Key; Supplier Part Number 1: SI4058DY-T1-GE3CT-ND; Vdss: 100V; Id: 10.3A
footprint 8-SOIC_NMOS
pins: 1 Gate, 2 Source, 3 Drain

## NMOS_100V_10A
designator Q?  Id: 10A  Vdss: 100V  Manufacturer Part Number 1: SSM6K819R,LF
N-CH MOSFET, 100 V, 10 A, 0.0258; Manufacturer 1: Toshiba Semiconductor and Storage; Package/Footprint: 6-TSOP-F; Vgs (Max): ±20V; Supplier 1: Digi-Key; Supplier Part Number 1: 264-SSM6K819RLFCT-ND; Mounting Type: SMD
footprint SSM6K819R,LF (SOTFL, 6-Leads, Body 2.90x2.80mm, Pitch 0.95mm, IPC Medium Density)
pins: 1 GATE, 2 SOURCE, 3 DRAIN

## NMOS_100V_15/47A_1
designator Q?, comment AONS66923
MOSFET N-CH 100V 15A/47A 8DFN; Mfr_Name: Alpha and Omega Semiconductor; Type: DEV; Copyright: Copyright (C) 2022 Ultra Librarian. All rights reserved.; Digi-Key_Part_Number_1: 785-1815-2-ND; Digi-Key_Part_Number_2: 785-1815-1-ND; Digi-Key_Part_Number_3: 785-1815-6-ND; RefDes: RefDes; Supplier 1: Digi-Key; Supplier Part Number 1: 785-1815-1-ND; Manufacturer_Part_Number: AONS66923
footprint DFN5X6_8L_EP1_P_AOS-L
pins: 1, 2, 3, 4, 5, 6, 7, 8

## NMOS_100V_33A
designator Q?  Vdss: 100V  Id: 33A  Manufacturer Part Number 1: TK33S10N1Z,LQ
MOSFET N-CH 100V 33A DPAK; Manufacturer 1: Toshiba Semiconductor and Storage; Vgs (Max): ±20V; Package/Footprint: TO-252-3; Supplier 1: Digi-Key; Supplier Part Number 1: TK33S10N1ZLQCT-ND
footprint TK33S10N1Z,LQ (D-PAK, 3-Pads, Body 5.95x6.71mm (max), IPC Medium Density)
pins: 1 Gate, 2 Source, 3 Drain

## NMOS_100V_90A
designator Q?  Manufacturer Part Number 1: TPH3R70APL,L1Q
MOSFET N-CH 100V 90A 8SOP; Manufacturer 1: Toshiba Semiconductor and Storage; Vgs (Max): ±20V; Package/Footprint: 8-SOP Advance; Vdss: 100V; Id: 90A; Supplier 1: Digi-Key; Supplier Part Number 1: 264-TPH3R70APLL1QCT-ND
footprint 8-SOP ADVANCE
pins: 1 Gate, 2 Source, 3 Drain

## NMOS_100V_100A
designator Q?  Id: 100A  Vdss: 100V  Manufacturer Part Number 1: CSD19532Q5B
MOSFET N-CH 100V 100A 8VSON; Manufacturer 1: Texas Instruments; Package/Footprint: 8-VSON-CLIP; Vgs (Max): ±20V; Supplier 1: Digi-Key; Supplier Part Number 1: 296-37478-1-ND; Mounting Type: SMD
footprint SSM6K819R,LF (SOTFL, 6-Leads, Body 2.90x2.80mm, Pitch 0.95mm, IPC Medium Density)
footprint 8-VSON
pins: 1 Gate, 2 Source, 3 Drain

## NMOS_100V_210A
designator Q?  Manufacturer Part Number 1: FDBL0240N100
MOSFET N-CH 100V 210A POWER56; Manufacturer 1: ON Semiconductor; FET Type: N-Channel; Vgs (Max): 20V; Power Dissipation (Max): 300W; Supplier 1: Digi-Key; Supplier Part Number 1: FDBL0240N100CT-ND; Vdss: 100V; Supplier Device Package: 8-HPSOF; Id: 210A
footprint 8-HPSOF
pins: 1 Gate, 2 Source, 3 Drain

## NMOS_150V_114A
designator Q?  Manufacturer Part Number 1: IPB073N15N5ATMA1
MOSFET N-CH 150V 114A TO263-3; Manufacturer 1: Infineon Technologies; Package/Footprint: TO-263-3, D²Pak; Vgs (Max): ±20V; Supplier 1: Digi-Key; Supplier Part Number 1: IPB073N15N5ATMA1CT-ND; Vdss: 150V; Mounting Type: SMD; Id: 114A
footprint NMOS_DPAK263-3-2 (D2-PAK, 3-Pads, Body 7.36x8.26mm (max), IPC Medium Density)
pins: 1 GATE, 2 DRAIN, 3 SOURCE

## NPN_25V_0.5A
designator Q?  Manufacturer Part Number 1: S8050
TRANS NPN 25V 0.5A SOT23; Manufacturer Name: Slkor; Datasheet Link: http://www.gmesemi.com/KUpload/product/TR/S8050%20SOT-23.pdf; Height: 1.1mm; LCSC Number: C444723; Voltage: 25V; Current: 0.5A
footprint SOT95P240X110-3N
pins: 1 B, 2 E, 3 C

## NPN_40V_1.5A
designator Q?  Manufacturer_Part_Number: SS8050-G
TRANS NPN 40V 1.5A SOT23; Manufacturer_Name: Comchip Technology; Datasheet Link: https://datasheet.datasheetarchive.com/originals/distributors/DKDS-12/229454.pdf; Height: 1.15mm; Mouser Part Number: 750-SS8050-G; Mouser Price/Stock: https://www.mouser.co.uk/ProductDetail/Comchip-Technology/SS8050-G?qs=LLUE9lz1YbcHg%252BWLMAtcrQ%3D%3D; Arrow Part Number: SS8050-G; Arrow Price/Stock: https://www.arrow.com/en/products/ss8050-g/comchip-technology?region=nac
footprint SOT23-3 (SOT23, 3-Leads, Body 2.90x2.30mm, Pitch 0.95mm, IPC Medium Density)
pins: 1 B, 2 E, 3 C

## NPN_40V_100mA
designator Q?  Manufacturer Part Number 1: MMBT3904-TP
TRANS NPN 40V 0.2A SOT23; Manufacturer 1: Micro Commercial Co; Package: SOT-23-3; Supplier Part Number 1: MMBT3904TPMSCT-ND; Supplier 1: Digi-Key
footprint SOT23-3 (SOT23, 3-Leads, Body 2.90x2.30mm, Pitch 0.95mm, IPC Medium Density)
pins: 1 B, 2 E, 3 C

## NTC_THERM_100K
designator *  value 100K  Manufacturer Part Number 1: ERT-J1VV104J
THERM NTC 100KOHM 4700K 0603; Manufacturer 1: Panasonic; Supplier Part Number 1: P10555CT-ND; Supplier 1: Digi-Key
footprint RESC0603(1608)_N (Chip Resistor, Body 1.6x0.8mm, IPC Medium Density)
pins: 1, 2
text: -t°

## OPAMP_CA3140AMZ
designator U?  Manufacturer Part Number 1: CA3140AMZ
IC OPAMP GP 1 CIRCUIT 8SOIC; Manufacturer 1: Renesas Electronics America Inc.; Supplier Part Number 1: CA3140AMZ-ND; Supplier 1: Digi-Key
footprint CA3140AMZ
pins: 1 OFFSET NULL, 2 IN-, 3 IN+, 4 V-, 5 OFFSET NULL, 6 VOUT, 7 V+, 8 STROBE

## OPAMP_OPA313IDBVR
designator U?  Manufacturer Part Number 1: OPA313IDBVR
IC OPAMP GP 1 CIRCUIT SOT23-5; Manufacturer 1: Texas Instruments; Package: SOT-23-5; Mounting Type: SMD; Supplier Part Number 1: 296-35607-1-ND; Supplier 1: Digi-Key; Verified: No
footprint DBV0005A_M (SOT23, 5-Leads, Body 3.05x1.75mm, Pitch 0.95mm, IPC Low Density)
pins: 1 OUT (out), 2 V- (power), 3 IN+ (in), 4 IN- (in), 5 V+ (power)

## OPAMP_TL081BCDG4
designator U?  Manufacturer Part Number 1: TL081BCD
IC OPAMP JFET 3MHZ 8SOIC; Manufacturer 1: Texas Instruments; Package/Footprint: 8-SOIC; Supplier Part Number 1: 296-34259-5-ND; Supplier 1: Digi-Key; Mounting Type: SMD; Verified: No
footprint TL081BCDG4
pins: 1 OFFSET NULL, 2 IN-, 3 IN+, 4 V-, 5 OFFSET NULL, 6 VOUT, 7 V+, 8 NC

## OPTOISO
designator U?  Manufacturer Part Number 1: TCMT1100
OPTOISOLATOR 1 CHANNEL 4-SOP; Manufacturer 1: Vishay Semiconductor Opto Division; Supplier 1: Digi-Key; Supplier Part Number 1: TCMT1100TR-ND
footprint SOP-4L_TC
pins: 1 IN "High voltage signal in", 2 GND, 3 OUT "Low voltage signal out", 4 VCC "Low voltage source"

## PCJ0J152MCL1GS
designator *  Supplier Part Number 1: 647-PCJ0J152MCL1GS
Supplier 1: Mouser
footprint CAPAE1030X1080N
pins: 1, 2

## PMOS_20V_820MA
designator Q?  Manufacturer Part Number 1: DMG1013UWQ-7
MOSFET P-CH 20V 820MA SOT323; Manufacturer 1: Diodes; Supplier 1: Digi-Key; Supplier Part Number 1: DMG1013UWQ-7DICT-ND
footprint SOT323
pins: 1 Drain, 2 Gate, 3 Source

## PMOS_30V_70A
designator Q?  Manufacturer Part Number 1: DMP3007SFG-7
MOSFET P-CH 30V 70A POWERDI3333; Manufacturer 1: Diodes Incorporated; Vgs (Max): 25V; Power Dissipation (Max): 2.8W (Ta); Package/Footprint: PowerDI3333-8; Supplier 1: Digi-Key; Supplier Part Number 1: DMP3007SFG-7DICT-ND; Vdss: 30V; Mounting Type: SMD; Verified: No; Id: 70A
footprint DMP3007SFG-7
pins: 1 Drain, 2 Gate, 3 Source

## PMOS_35V_13A
designator Q?  Manufacturer Part Number 1: FDD6637
MOSFET P-CH 35V 13A DPAK; Manufacturer 1: ON Semiconductor / Fairchild; Rds On Max: 11.6mR; Input Capacitance: 2.37nF; Max Power Dissipation: 57W; Rise Time: 10ns; Fall Time: 36ns; Turn-Off Delay Time: 62ns; Turn-On Delay Time: 18ns; Gate to Source Voltage (Vgs): 25V; Element Configuration: Single; Number of Elements: 1; Power Dissipation: 3.1W; Drain to Source Breakdown Voltage: -35V; Threshold Voltage: -1.6V; Continuous Drain Current (ID): 55A; Supplier 1: Digi-Key; Number of Pins: 3; Drain to Source Voltage (Vdss): 35V; Drain to Source Resistance: 11.6mR; Nominal Vgs: -1.6V; On-State Resistance: 11.6MR; Supplier Part Number 1: FDD6637CT-ND
footprint D-PAK2 (TO-252AA)
pins: 1 Drain, 2 Gate, 3 Source

## PMOS_40V_8.4A
designator Q?  Manufacturer Part Number 1: FDD4685
MOSFET P-CH 40V 8.4A D-PAK; Manufacturer 1: ON Semiconductor / Fairchild; Vgs (Max): ±20V; Supplier 1: Digi-Key; Mounting Type: SMD; Package/Footprint: D-PAK; Supplier Part Number 1: FDD4685CT-ND; Current - Continuous Drain (Id) @ 25°C: 8.4A; Drain to Source Voltage (Vdss): 40V; Verified: No
footprint D-PAK (TO-252AA)
pins: 1 Drain, 2 Gate, 3 Source

## PMOS_40V_40A
designator Q?  Manufacturer Part Number 1: AOD4189
MOSFET P-CH 40V 40A TO252; Manufacturer 1: Alpha & Omega Semiconductor Inc.; Vgs (Max): 20V; Package/Footprint: D-Pak; Supplier 1: Digi-Key; Supplier Part Number 1: 785-1351-1-ND; Drain to Source Voltage (Vdss): 40V; Mounting Type: SMD; Verified: No; LCSC Part #: *; Id: 40A
footprint D-PAK (TO-252AA)
pins: 1 Drain, 2 Gate, 3 Source

## PMOS_40V_100A
designator Q?  Manufacturer Part Number 1: FDD9507L-F085
MOSFET P-CH 40V 100A D-PAK 4.4MOHM; Manufacturer 1: ON Semiconductor; Vgs (Max): 16V; Power Dissipation (Max): 227W; Supplier 1: Digi-Key; Supplier Part Number 1: FDD9507L-F085OSCT-ND; Vdss: 40V; Package/Footprint: D-PAK; Mounting Type: SMD; Verified: No; Id: 100A
footprint D-PAK (TO-252AA)
pins: 1 Drain, 2 Gate, 3 Source

## PMOS_60V_120mA
designator Q?  Manufacturer Part Number 1: TP0610T-G
MOSFET P-CH 60V 120MA TO236AB; Manufacturer 1: Microchip Technology; Vgs (Max): ±20V; Package/Footprint: SOT-23; Vdss: 60V; Mounting Type: SMD; Id: 120mA; Supplier 1: Arrow Electronics; Supplier Part Number 1: TP0610T-G
footprint SOT23-3 (SOT23, 3-Leads, Body 2.90x2.30mm, Pitch 0.95mm, IPC Medium Density)
pins: 1 Gate, 2 Source, 3 Drain

## PMOS_85V_96A
designator Q?  Manufacturer Part Number 1: IXTA96P085T-TRL
MOSFET P-CH 85V 96A TO263; Manufacturer 1: IXYS; Package/Footprint: TO-263AA; Vgs (Max): ±15V; Mounting Type: SMD; Verified: No; Supplier 1: Digi-Key; Supplier Part Number 1: IXTA96P085T-TRLCT-ND; Id: 96A; Vdss: 85V
footprint D-PAK (TO-252AA)
pins: 1 Drain, 2 Gate, 3 Source

## PMOS_100V_13A
designator Q?  Current - Continous Drain: 13A  Manufacturer Part Number 1: RD3P130SPFRATL
MOSFET P-CH 100V 13A TO252; Manufacturer 1: Rohm Semiconductor; Vgs (Max): ±20V; Package/Footprint: D2Pak; Mounting Type: SMD; Verified: No; Vdss: 100V; Supplier 1: Digi-Key; Supplier Part Number 1: RD3P130SPFRATLCT-ND
footprint RD3P130SPFRATL (MOSFET P-CH 100V 13A TO252)
pins: 1 Gate, 2 Drain, 3 Source

## PMOS_100V_22A
designator Q?  Manufacturer Part Number 1: FQB22P10TM
MOSFET P-CH 100V 22A D2PAK; Manufacturer 1: ON Semiconductor / Fairchild; Supplier Part Number 1: FQB22P10TMCT-ND; Package/Footprint: D2PAK; Supplier 1: Digi-Key; Mounting Type: SMD; Verified: No
simulation model PMOS (MOSFET-P)
footprint SOT404
pins: 1 Drain, 2 Gate, 3 Source

## PMOS_100V_38A
designator Q?  Current - Continous Drain: 38A  Manufacturer Part Number 1: IRF5210STRLPBF
MOSFET P-CH 100V 38A D2PAK; Manufacturer 1: Vishay Siliconix; Vgs (Max): ±15V; Id: 120A; Mounting Type: SMD; Verified: No; Vdss: 100V; Supplier 1: Digi-Key; Supplier Part Number 1: IRF5210STRLPBFCT-ND; Package/Footprint: D2Pak
footprint DPAK254P1524X483-4_3N - new
pins: 1 Gate, 2 Drain, 3 Source

## PMOS_100V_120A
designator Q?  Manufacturer Part Number 1: SQM120P10_10M1LGE3
MOSFET P-CH 100V 120A TO263; Manufacturer 1: Vishay Siliconix; Package/Footprint: TO-263; Vgs (Max): ±15V; Mounting Type: SMD; Verified: No; Id: 120A; Vdss: 100V; Supplier 1: Digi-Key; Supplier Part Number 1: IXTA96P085T-ND
footprint D-PAK (TO-252AA)
pins: 1 Drain, 2 Gate, 3 Source

## POT_5K
designator R?  value 5K
TRIMMER 5K OHM 0.5W PC PIN TOP; Manufacturer Part Number 1: 3362P-1-502LF; Manufacturer 1: Bourns Inc.; Supplier Part Number 1: 3362P-502LF-ND; Supplier 1: Digi-Key
signal-integrity model Res
footprint 3362P-1-502LF
pins: 1, 2, 3

## POT_10K
designator VR?  Manufacturer Part Number 1: PTV09A-4020F-B103
POT 10K OHM 1/20W CARBON LINEAR; Manufacturer 1: Bourns; Supplier 1: Digi-Key; Supplier Part Number 1: PTV09A-4020F-B103-ND
footprint PTV09A4020FB103
pins: 1 CCW, 2 WIPER, 3 CW, 4 NC, 5 NC

## POT_10K_SLIDE
designator VR?  Manufacturer Part Number 1: PTA2043-2015DPB103
SLIDE POT 10K OHM 0.1W TOP 20MM; Manufacturer 1: Bourns; Supplier 1: Digi-Key; Supplier Part Number 1: PTA2043-2015DPB103-ND
footprint PTA20432015CPB103
pins: 1 CCW, 2 WIPER, 3 CW, 4 NC, 5 NC, 6 NC, 7 NC

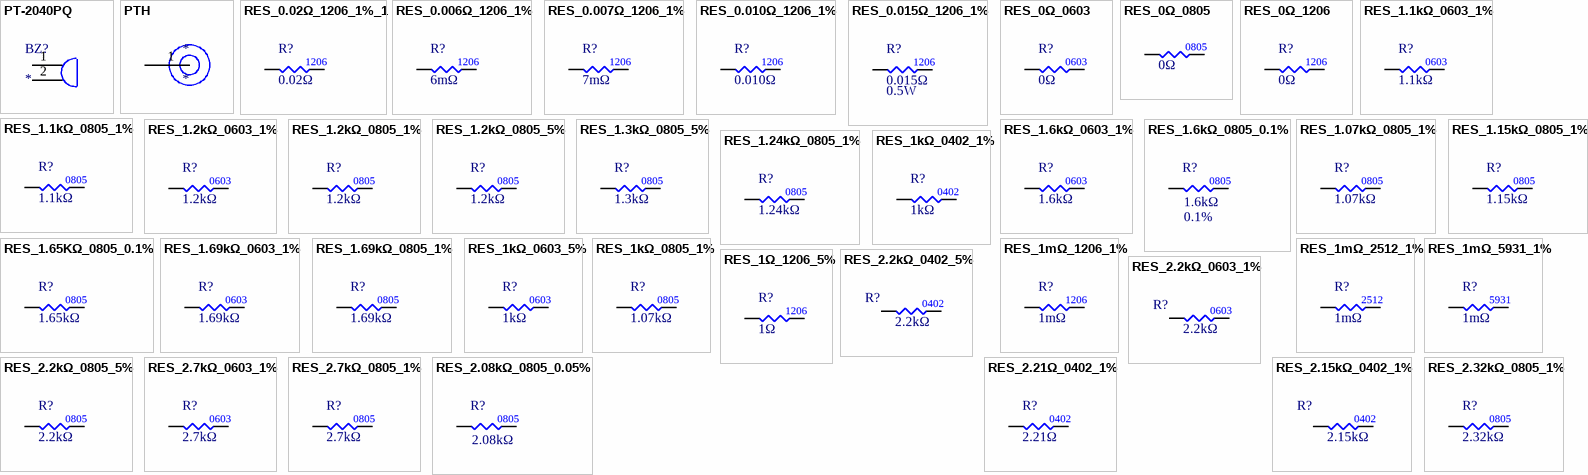
[diagram p17: symbols PT-2040PQ to RES_2.32kΩ_0805_1%]

## PT-2040PQ
designator BZ?
Loudspeaker or Buzzer; Manufacturer_Name: Mallory Sonalert; Manufacturer_Part_Number: PT-2040PQ; Datasheet Link: https://datasheet.datasheetarchive.com/originals/distributors/SFDatasheet-1/sf-00027599.pdf; Height: 9.4mm; Mouser Part Number: 539-PT2040PQ; Mouser Price/Stock: https://www.mouser.co.uk/ProductDetail/Mallory-Sonalert/PT-2040PQ?qs=l%2Fkuw%2F8%252BD9j2AVf7eGaf%252BA%3D%3D
footprint PT2040PQ
pins: 1, 2

## PTH
designator *
footprint PTH (Plated Through Hole)
pins: 1

## RES_0.02Ω_1206_1%_1
designator R?  value 0.02Ω
RES 0.02 OHM 1% 1W 1206; Manufacturer 1: Thin Film Technology Corp.; Manufacturer Part Number 1: D1MPC1206QR020FF-T5; Supplier 1: Digi-Key; Supplier Part Number 1: 4463-D1MPC1206QR020FF-T5CT-ND; Package: 1206
footprint RES1206 (Chip Resistor, Body 3.2x1.6mm, IPC Medium Density)
pins: 1, 2

## RES_0.006Ω_1206_1%
designator R?  value 6mΩ
RES 0.006 OHM 1% 1W 1206; Manufacturer 1: Rohm Semiconductor; Package/Footprint: 1206; Manufacturer Part Number 1: Rohm Semiconductor; Mounting Type: SMD; Supplier 1: Digi-Key; Supplier Part Number 1: RHM.006ALCT-ND
footprint RES1206 (Chip Resistor, Body 3.2x1.6mm, IPC Medium Density)
pins: 1, 2